# Altium footprint library rpi_conn_modified.PcbLib: 1 footprints
Each footprint in its own frame and in the unit in brackets; x right, y up, seen from the top. Pads: shape width x height; smd on the part's side, far side on the other; paste and mask are expansions set on the pad; w line width, h text height; cw(c..) or ccw(c..) is an arc to the next point about the centre after c.
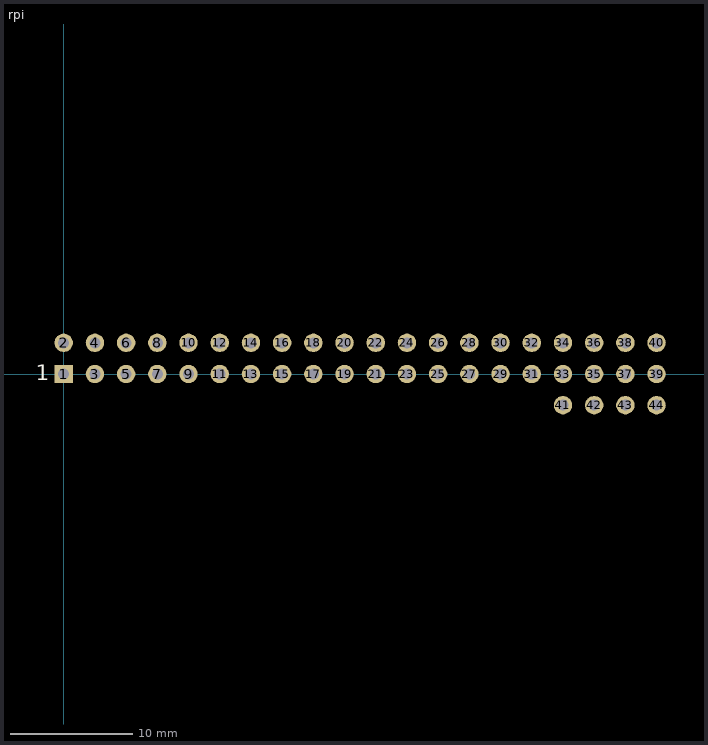
[diagram p0: the footprint, top view; thin cyan lines are the x and y axes]

## rpi [mm]
pads (44):
  rect 1.5x1.5 hole 0.9: 1(0,0)
  round 1.5 hole 0.9: 2(0,2.54) 3(2.54,0) 4(2.54,2.54) 5(5.08,0) 6(5.08,2.54) 7(7.62,0) 8(7.62,2.54) 9(10.16,0) 10(10.16,2.54) 11(12.7,0) 12(12.7,2.54) 13(15.24,0) 14(15.24,2.54) 15(17.78,0) 16(17.78,2.54) 17(20.32,0) 18(20.32,2.54) 19(22.86,0) 20(22.86,2.54) 21(25.4,0) 22(25.4,2.54) 23(27.94,0) 24(27.94,2.54) 25(30.48,0) 26(30.48,2.54) 27(33.02,0) 28(33.02,2.54) 29(35.56,0) 30(35.56,2.54) 31(38.1,0) 32(38.1,2.54) 33(40.64,0) 34(40.64,2.54) 35(43.18,0) 36(43.18,2.54) 37(45.72,0) 38(45.72,2.54) 39(48.26,0) 40(48.26,2.54) 41(40.64,-2.54) 42(43.18,-2.54) 43(45.72,-2.54) 44(48.26,-2.54)
Top Overlay:
  text "1" at -2.27,-0.505 h1.27
Bottom Overlay:
  lines w0.2: -1.27,-1.27 -1.27,3.81 49.53,3.81 49.53,-3.81 39.37,-3.81 39.37,-1.27 -1.27,-1.27
3D body "female_header_a-bl254-dg-z32d.stp": height 8.5, standoff -3.2, extent -1.27,-1.23 39.62,3.77
3D body "goldpin_1x4_2.54_female.step": height 8.3, standoff -3.2, extent 38.94,-3.74 49.96,-1.34
3D body "female_header_a-bl254-dg-z32d.stp": height 8.5, standoff -3.2, extent 8.64,-1.23 49.53,3.77